# Altium footprint library Connectors.PcbLib: 1 footprints
Each footprint in its own frame and in the unit in brackets; x right, y up, seen from the top. Pads: shape width x height; smd on the part's side, far side on the other; paste and mask are expansions set on the pad; w line width, h text height; cw(c..) or ccw(c..) is an arc to the next point about the centre after c.
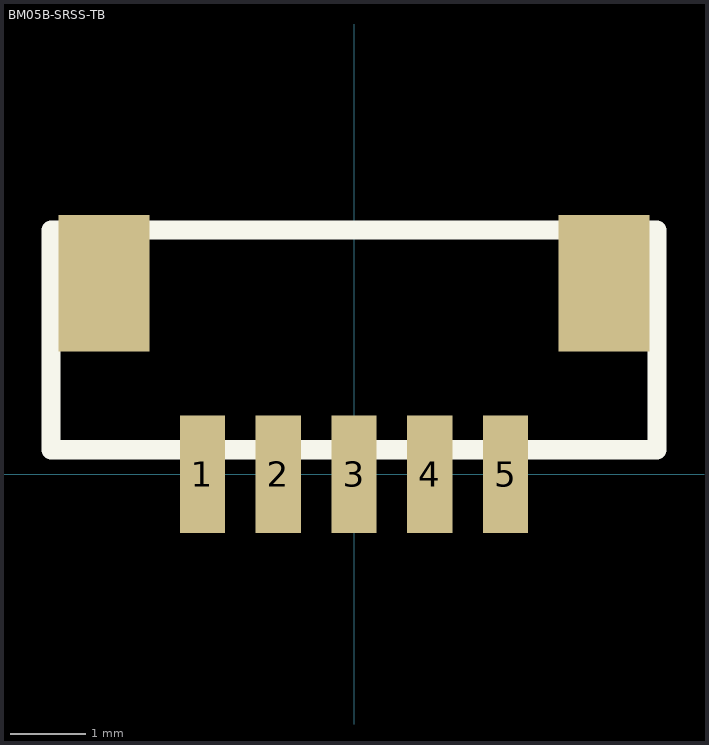
[diagram p0: the footprint, top view; thin cyan lines are the x and y axes]

## BM05B-SRSS-TB [mm] "CONN HEADER SH 5POS TOP 1MM TIN"
pads (7):
  rect 0.6x1.55 smd: 1(-2,0) 2(-1,0) 3(0,0) 4(1,0) 5(2,0)
  rect 1.2x1.8 smd: ""(-3.3,2.525) ""(3.3,2.525)
Top Overlay:
  lines w0.254: -4,0.325 4,0.325 4,3.225 -4,3.225 -4,0.325